# EAGLE library part CONNECTORSTVD_M03X2 (library Main)
2x3 .1" header. Shrouded, with keying- CONN-10681 SMT- CONN-11415 Pogo pins- HW-11044
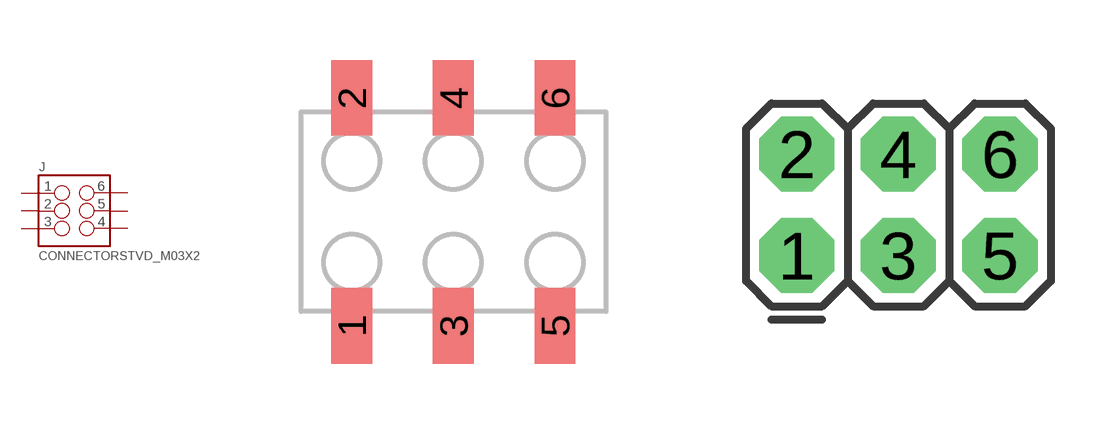
[diagram p4: symbol with the pads of CONNECTORSTVD_2X3_SMD; footprints CONNECTORSTVD_2X3_SMD, CONNECTORSTVD_2X3]

Designator prefix J

## CONNECTORSTVD_M03X2 (PROD_ID: CONN-11290)  [CONNECTORSTVD_2X3_SMD]
1  1
2  2
3  3
4  4
5  5
6  6

## CONNECTORSTVD_M03X22X3_SILK_MALE_PTH (PROD_ID: CONN-09701)  [CONNECTORSTVD_2X3]
Pads as for CONNECTORSTVD_2X3_SMD

## CONNECTORSTVD_M03X2FEMALE (PROD_ID: CONN-11566; VALUE: FEMALE 2x3)  [CONNECTORSTVD_2X3]
Pads as for CONNECTORSTVD_2X3_SMD

## CONNECTORSTVD_M03X2FEMALE_SMD (PROD_ID: CONN-11290)  [CONNECTORSTVD_2X3_SMD]
Pads as for CONNECTORSTVD_2X3_SMD

## CONNECTORSTVD_M03X2MINIFIT_JR  [CONNECTORSTVD_2X03_MINIFIT_JR]
Pads as for CONNECTORSTVD_2X3_SMD

## CONNECTORSTVD_M03X2NO_SILK  [CONNECTORSTVD_2X3-NS]
Pads as for CONNECTORSTVD_2X3_SMD

## CONNECTORSTVD_M03X2POGO_PINS (PROD_ID: HW-11044)  [CONNECTORSTVD_2X3_POGO]
P$1  1
P$2  2
P$3  3
P$4  4
P$5  5
P$6  6

## CONNECTORSTVD_M03X2SHROUD (PROD_ID: CONN-10681)  [CONNECTORSTVD_2X3-SHROUDED]
Pads as for CONNECTORSTVD_2X3_SMD

## CONNECTORSTVD_M03X2SMT (PROD_ID: CONN-11415)  [CONNECTORSTVD_2X3_SMT_POSTS]
Pads as for CONNECTORSTVD_2X3_SMD

## Footprint CONNECTORSTVD_2X3_SMD (pad centres in mm)
smd 1.02 x 1.9: 1 -2.54,-2.85; 2 -2.54,2.85; 3 0,-2.85; 4 0,2.85; 5 2.54,-2.85; 6 2.54,2.85

## Footprint CONNECTORSTVD_2X3 (pad centres in mm)
drill 1.016 pad 1.88 octagon: 1 0,0; 2 0,2.54; 3 2.54,0; 4 2.54,2.54; 5 5.08,0; 6 5.08,2.54

## Footprint CONNECTORSTVD_2X03_MINIFIT_JR (pad centres in mm)
drill 1.8 pad 3.6: 1 8.4,0; 2 4.2,0; 3 0,0; 4 0,5.5; 5 4.2,5.5; 6 8.4,5.5
hole 3 at 0,-7.3
hole 3 at 8.4,-7.3

## Footprint CONNECTORSTVD_2X3-NS (pad centres in mm)
drill 1.016 pad 1.88 square: 1 -2.54,-1.27
drill 1.016 pad 1.88 octagon: 2 -2.54,1.27; 3 0,-1.27; 4 0,1.27; 5 2.54,-1.27; 6 2.54,1.27

## Footprint CONNECTORSTVD_2X3_POGO (pad centres in mm)
drill 1.2 pad 1.829 octagon: P$1 0,0; P$2 0,2.54; P$3 2.54,0; P$4 2.54,2.54; P$5 5.08,0; P$6 5.08,2.54

## Footprint CONNECTORSTVD_2X3-SHROUDED (pad centres in mm)
drill 1.016 pad 1.88 octagon: 1 -1.27,2.54; 2 1.27,2.54; 3 -1.27,0; 4 1.27,0; 5 -1.27,-2.54; 6 1.27,-2.54

## Footprint CONNECTORSTVD_2X3_SMT_POSTS (pad centres in mm)
4UCON 15881 Male .1" spaced SMT Keying posts into board
smd 1 x 3.17: 1 -2.54,-2.54; 2 -2.54,2.54; 3 0,-2.54; 4 0,2.54; 5 2.54,-2.54; 6 2.54,2.54
hole 1.8 at -1.27,0
hole 1.8 at 1.27,0